# EAGLE library part 332-36 (library con-garry)
36 Pin - 2mm Dual Row Source: www.mpe-connector.de / garry_shortform_2012.pdf
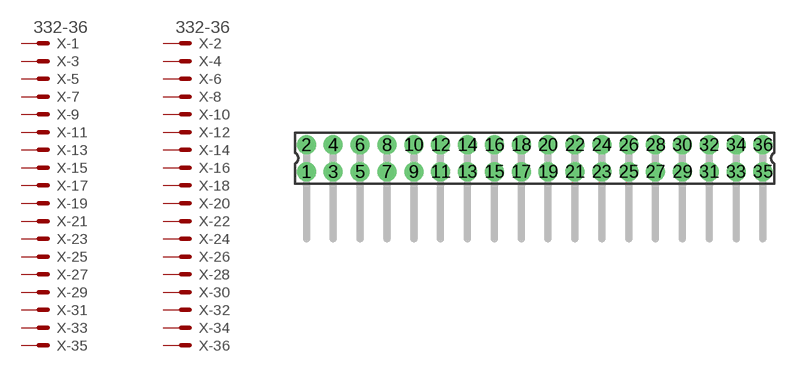
[diagram p17: symbol with the pads of 332-36; footprint 332-36]

Designator prefix X; gates -1=MV -2=MV -3=M -4=M -5=M -6=M -7=M -8=M -9=M -10=M -11=M -12=M -13=M -14=M -15=M -16=M -17=M -18=M -19=M -20=M -21=M -22=M -23=M -24=M -25=M -26=M -27=M -28=M -29=M -30=M -31=M -32=M -33=M -34=M -35=M -36=M

## 332-36  [332-36]
1  -1:S  pas
2  -2:S  pas
3  -3:S  pas
4  -4:S  pas
5  -5:S  pas
6  -6:S  pas
7  -7:S  pas
8  -8:S  pas
9  -9:S  pas
10  -10:S  pas
11  -11:S  pas
12  -12:S  pas
13  -13:S  pas
14  -14:S  pas
15  -15:S  pas
16  -16:S  pas
17  -17:S  pas
18  -18:S  pas
19  -19:S  pas
20  -20:S  pas
21  -21:S  pas
22  -22:S  pas
23  -23:S  pas
24  -24:S  pas
25  -25:S  pas
26  -26:S  pas
27  -27:S  pas
28  -28:S  pas
29  -29:S  pas
30  -30:S  pas
31  -31:S  pas
32  -32:S  pas
33  -33:S  pas
34  -34:S  pas
35  -35:S  pas
36  -36:S  pas

## Footprint 332-36 (pad centres in mm)
36 Pin - 2mm Dual Row Source: www.mpe-connector.de / garry_shortform_2012.pdf
drill 0.9 pad 1.27: 1 -17,-1; 2 -17,1; 3 -15,-1; 4 -15,1; 5 -13,-1; 6 -13,1; 7 -11,-1; 8 -11,1; 9 -9,-1; 10 -9,1; 11 -7,-1; 12 -7,1; 13 -5,-1; 14 -5,1; 15 -3,-1; 16 -3,1; 17 -1,-1; 18 -1,1; 19 1,-1; 20 1,1; 21 3,-1; 22 3,1; 23 5,-1; 24 5,1; 25 7,-1; 26 7,1; 27 9,-1; 28 9,1; 29 11,-1; 30 11,1; 31 13,-1; 32 13,1; 33 15,-1; 34 15,1; 35 17,-1; 36 17,1